# Altium footprint library B3F-1000.PcbLib: 1 footprints
Each footprint in its own frame and in the unit in brackets; x right, y up, seen from the top. Pads: shape width x height; smd on the part's side, far side on the other; paste and mask are expansions set on the pad; w line width, h text height; cw(c..) or ccw(c..) is an arc to the next point about the centre after c.
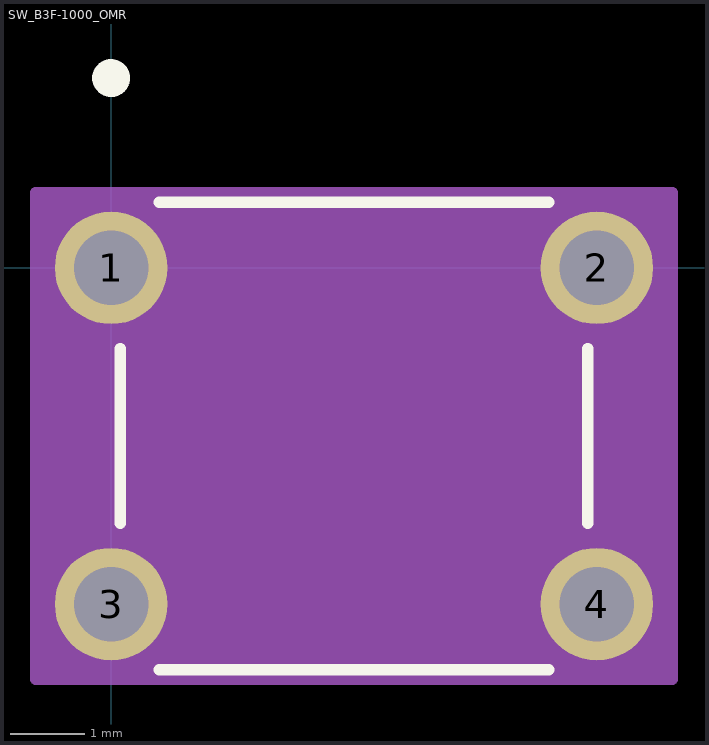
[diagram p0: the footprint, top view; thin cyan lines are the x and y axes]

## SW_B3F-1000_OMR [mm]
pads (4):
  round 1.508 hole 1 paste-0.754 mask+0: 1(0,0) 2(6.5,0) 3(0,-4.5) 4(6.5,-4.5)
Top Overlay:
  circle w0.254: c0,2.54 r0.127
  lines w0.152: 0.123,-3.42 0.123,-1.08 ; 0.642,-5.377 5.858,-5.377 ; 0.642,0.877 5.858,0.877 ; 6.377,-3.42 6.377,-1.08
  text ".Designator" at -0.242,-2.885 h1.27
Bottom Overlay:
  circle w0.254: c0,2.54 r0.127
Mechanical 13:
  circle w0.254: c1.27,0 r0.127
  circle w0.025: c3.25,-2.25 r1.75
  lines w0.025: -0.5,-5 -0.5,-4 0.25,-4 0.25,-5 -0.5,-5 ; -0.5,-0.5 -0.5,0.5 0.25,0.5 0.25,-0.5 -0.5,-0.5 ; 0.25,-5.25 6.25,-5.25 6.25,0.75 0.25,0.75 0.25,-5.25 ; 6.25,-5 6.25,-4 7,-4 7,-5 6.25,-5 ; 6.25,-0.5 6.25,0.5 7,0.5 7,-0.5 6.25,-0.5
  text ".Designator" at -0.242,-2.885 h1.27
Mechanical 15:
  region: -0.004,-5.508 -1.008,-5.508 -1.008,1.008 -0.004,1.008 -0.004,1.004 6.504,1.004 6.504,1.008 7.508,1.008 7.508,-5.508 6.504,-5.508 6.504,-5.504 -0.004,-5.504
  lines w0.152: -1.008,-5.508 -1.008,1.008 -0.004,1.008 -0.004,1.004 6.504,1.004 6.504,1.008 7.508,1.008 7.508,-5.508 6.504,-5.508 6.504,-5.504 -0.004,-5.504 -0.004,-5.508 -1.008,-5.508